# EAGLE library part EE310_RCTANK_PROTOA_TANK_BOARD_OUTLINE_GPIO (library pwmCatMoto)
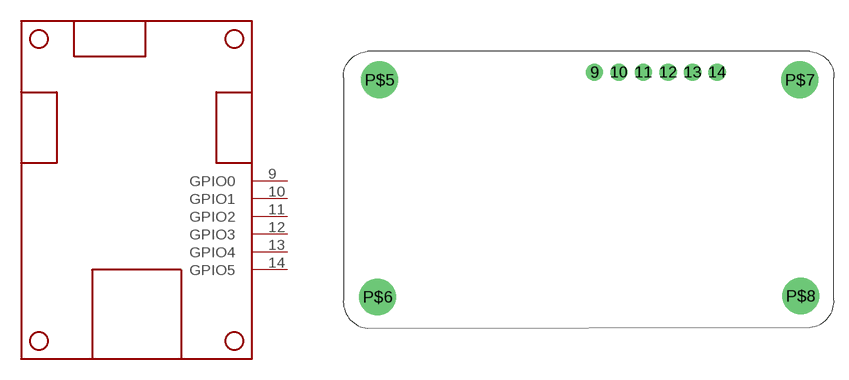
[diagram p4: symbol with the pads of EE310_RCTANK_PROTOA_TANK_BOARD_1; footprint EE310_RCTANK_PROTOA_TANK_BOARD_1]

Designator prefix -

## EE310_RCTANK_PROTOA_TANK_BOARD_OUTLINE_GPIO  [EE310_RCTANK_PROTOA_TANK_BOARD_1]
9  GPIO0
10  GPIO1
11  GPIO2
12  GPIO3
13  GPIO4
14  GPIO5

## Footprint EE310_RCTANK_PROTOA_TANK_BOARD_1 (pad centres in mm)
drill 1 pad 1.778: 9 24.73,26; 10 27.27,26; 11 29.81,26; 12 32.35,26; 13 34.89,26; 14 37.43,26
drill 2.5 pad 3.81: P$5 2.47,25.2; P$6 2.27,2.74; P$7 45.99,25.2; P$8 46.09,2.84